# EAGLE library part LTC2943 (library pmon_uno)
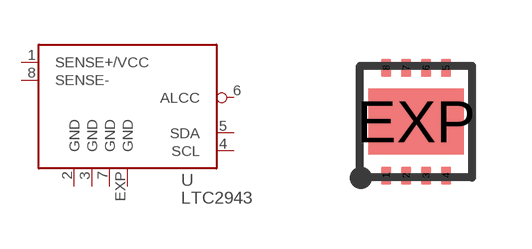
[diagram p3: symbol with the pads of DFN8-3X3; footprint DFN8-3X3]

Designator prefix -

## LTC2943  [DFN8-3X3]
1  SENSE+/VCC  pas
2  GND  sup
3  GND  sup
4  SCL  in
5  SDA
6  ALCC  oc
7  GND  sup
8  SENSE-  pas
EXP  GND  sup

## Footprint DFN8-3X3 (pad centres in mm)
DD Package 8-Lead Plastic DFN (3mm × 3mm) Source: http://cds.linear.com/docs/Datasheet/623012fb.pdf
smd 0.25 x 0.45: 1 -0.75,-1.35; 2 -0.25,-1.35; 3 0.25,-1.35; 4 0.75,-1.35; 5 0.75,1.35; 6 0.25,1.35; 7 -0.25,1.35; 8 -0.75,1.35
smd 2.38 x 1.65: EXP 0,0